# Altium integrated library S1GTR.IntLib: 1 symbol
Pins are listed as number, name and electrical type; pins without a type are passive.

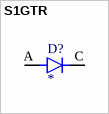
[diagram p0: symbol S1GTR]

## S1GTR
designator D?
Diode Standard 400V 1A Surface Mount SMA (DO-214AC); MF: SMC Diode Solutions; MP: S1GTR; Package: DO-214AC-214 SMC Diode Solutions; Value: *; Availability: Warning; Check_prices: https://www.snapeda.com/parts/S1GTR/SMC%20Diode%20Solutions/view-part/2779282/?ref=eda; SnapEDA_Link: https://www.snapeda.com/parts/S1GTR/SMC%20Diode%20Solutions/view-part/2779282/?ref=snap; Price: None; Purchase-URL: https://pricing.snapeda.com/search/part/S1GTR/?ref=eda
footprint DIODE SMA (S1GTR)
pins: A, C K